# Altium footprint library AT224-1A.PcbLib: 1 footprints
Each footprint in its own frame and in the unit in brackets; x right, y up, seen from the top. Pads: shape width x height; smd on the part's side, far side on the other; paste and mask are expansions set on the pad; w line width, h text height; cw(c..) or ccw(c..) is an arc to the next point about the centre after c.
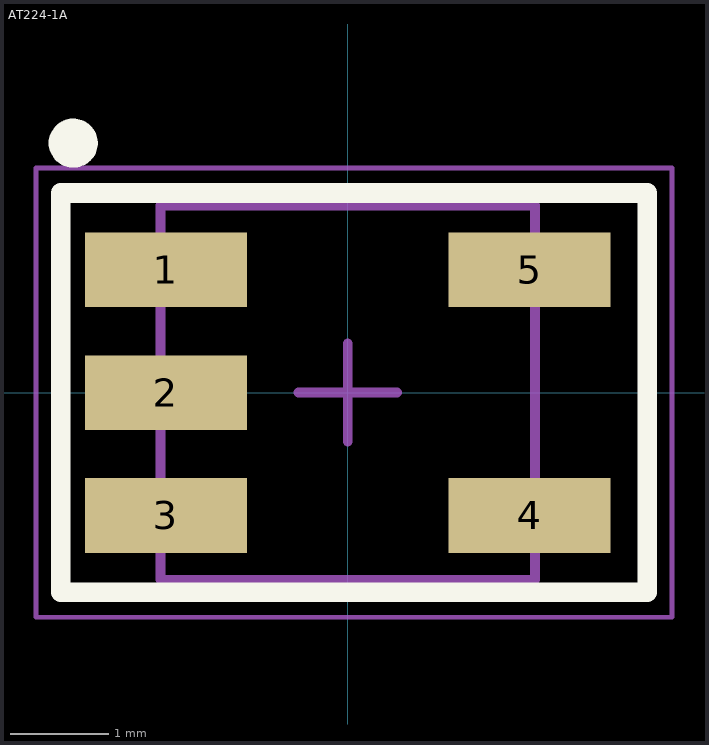
[diagram p0: the footprint, top view; thin cyan lines are the x and y axes]

## AT224-1A [mm] "surface mount RF transformer"
height 4
pads (5):
  rect 1.65x0.76 smd: 1(-1.85,1.25) 2(-1.85,0) 3(-1.85,-1.25) 4(1.85,-1.25) 5(1.85,1.25)
Top Overlay:
  circle w0.25: c-2.794,2.54 r0.125
  lines w0.2: -2.921,-2.032 -2.921,2.032 3.048,2.032 3.048,-2.032 -2.921,-2.032
Mechanical 13:
  lines w0.1: -1.905,-1.905 1.905,-1.905 1.905,1.905 -1.905,1.905 -1.905,-1.905
Mechanical 15:
  lines w0.05: -3.175,-2.286 3.302,-2.286 3.302,2.286 -3.175,2.286 -3.175,-2.286
  lines w0.1: -0.5,0 0.5,0 ; 0,-0.5 0,0.5
Mechanical 17:
  text "'.Designator'" at -0.254,1.778 h0.64
Mechanical 19:
  text "'.Comment'" at -0.254,1.778 h0.64
3D body "trafo1.step": height 4.1, standoff 0, extent -2.413,-1.905 2.413,1.905